# Altium footprint library MT_Module.PcbLib: 21 footprints (part 1 of 2)
Each footprint in its own frame and in the unit in brackets; x right, y up, seen from the top. Pads: shape width x height; smd on the part's side, far side on the other; paste and mask are expansions set on the pad; w line width, h text height; cw(c..) or ccw(c..) is an arc to the next point about the centre after c.
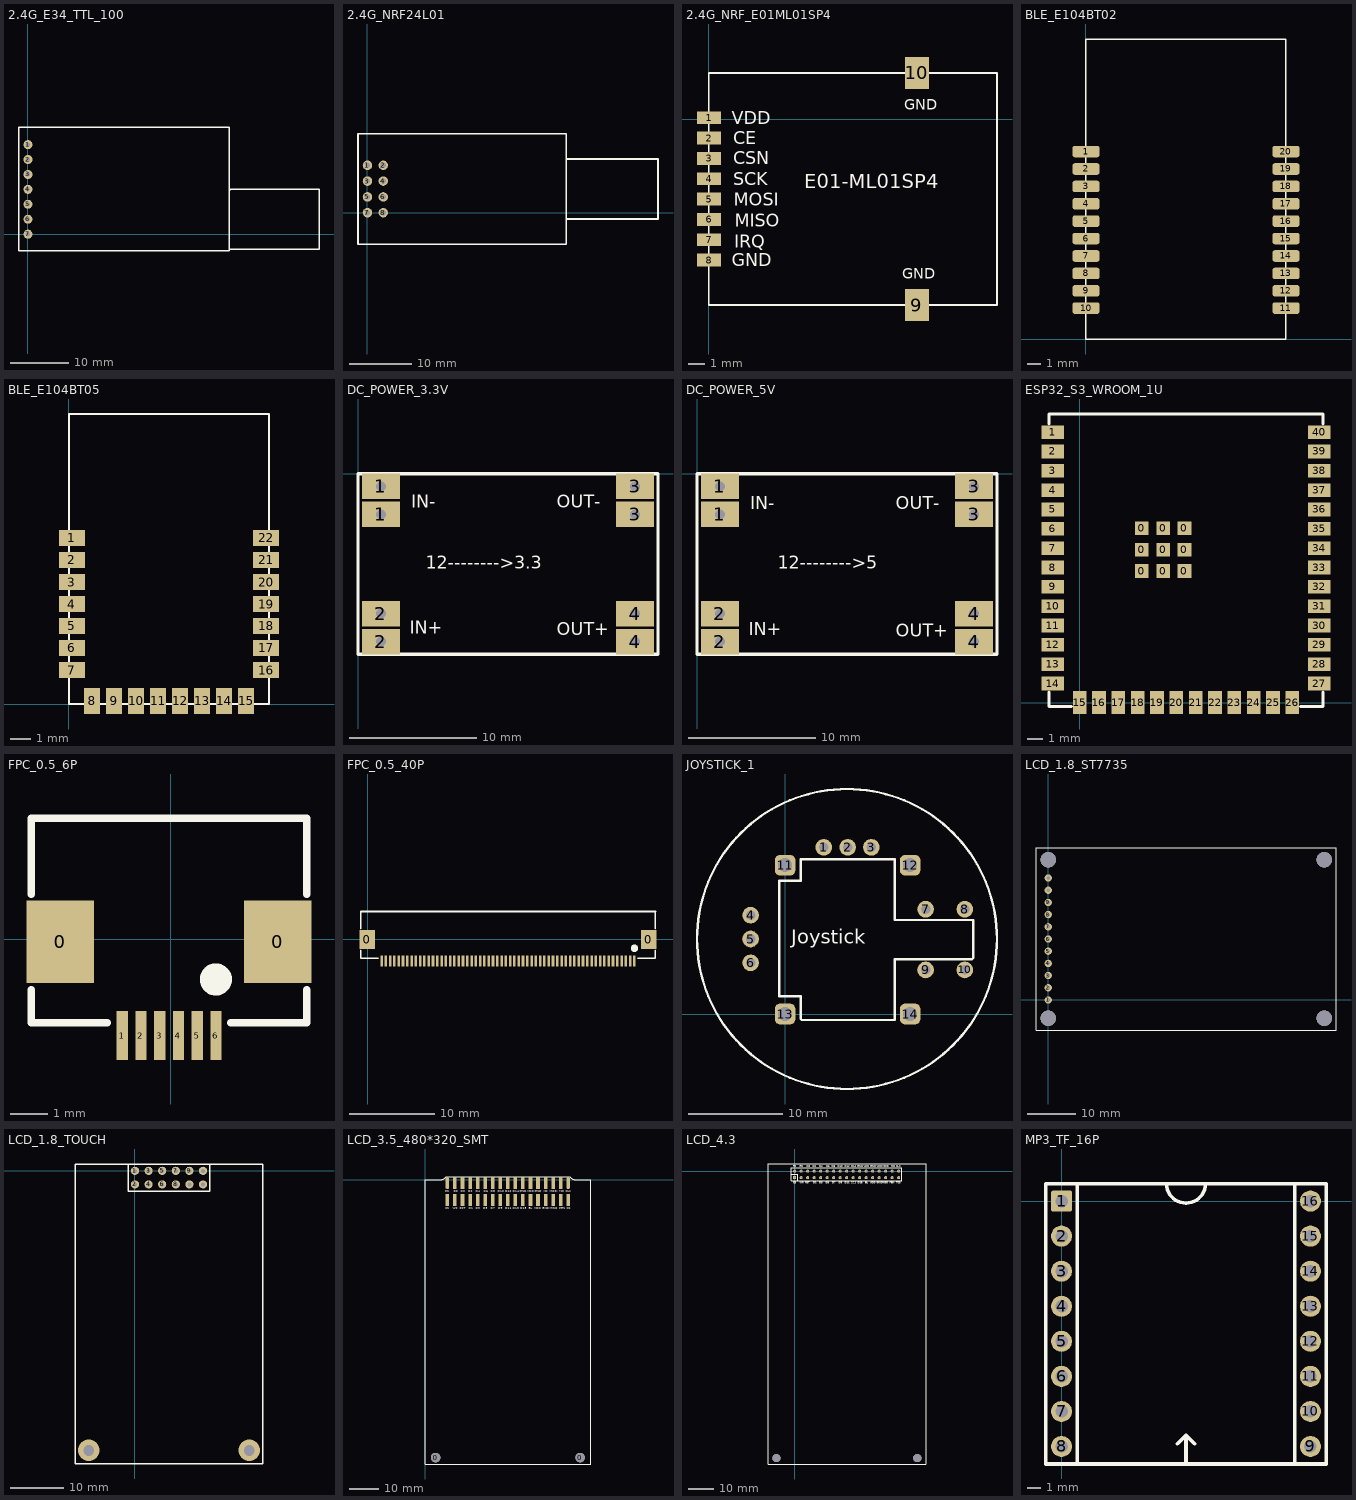
[diagram p0: the footprints below, top view; thin cyan lines are the x and y axes]

## 2.4G_E34_TTL_100 [mil]
pads (7):
  round 60 hole 30: 1(0,600) 2(0,500) 3(0,400) 4(0,300) 5(0,200) 6(0,100) 7(0,0)
Top Overlay:
  lines w10: 1350,-100 1950,-100 1950,100 1950,300 1350,300 1445,300 ; 1350,295 1355,295 ; 1650,300 1660,300 ; 1655,-100 1670,-100 ; -60,-110 -60,715 1350,715 1350,-110 -60,-110

## 2.4G_NRF24L01 [mil]
pads (8):
  round 60 hole 33.46: 1(0,300) 2(100,300) 3(0,200) 4(100,200) 5(0,100) 6(100,100) 7(0,0) 8(100,0)
Top Overlay:
  lines w10: 1260,-40 1840,-40 ; 1260,340 1840,340 1840,-40 ; 1640,-40 1840,-40 ; -60,-200 -60,500 0,500 1260,500 1260,-200 -60,-200
3D body "2.54mm4_2Pin.STEP": height 334.65, standoff -137.8, extent -45,-70 143.98,369.37

## 2.4G_NRF_E01ML01SP4 [mm]
pads (10):
  rect 1.5x0.8 smd: 1(0.006,0.108) 2(0.006,-1.162) 3(0.006,-2.432) 4(0.006,-3.702) 5(0.006,-4.972) 6(0.006,-6.242) 7(0.006,-7.512) 8(0.006,-8.782)
  rect 1.5x2 smd: 9(13,-11.595) 10(13,2.905)
Top Overlay:
  lines w0.1: 0,-11.595 18,-11.595 18,2.905 0,2.905 0,-11.595
  text "E01-ML01SP4" at 5.96,-4.285 h0.9
  text "VDD" at 1.435,-0.285 h0.8
  text "GND" at 12.192,0.597 h0.65
  text "CE" at 1.515,-1.545 h0.8
  text "CSN" at 1.515,-2.795 h0.8
  text "SCK" at 1.535,-4.115 h0.8
  text "MOSI" at 1.555,-5.395 h0.8
  text "MISO" at 1.605,-6.695 h0.8
  text "IRQ" at 1.585,-8.005 h0.8
  text "GND" at 1.435,-9.185 h0.8
  text "GND" at 12.065,-9.944 h0.65

## BLE_E104BT02 [mm]
pads (20):
  rrect50% 2x0.85 smd: 1(0.025,13.68) 2(0.025,12.41) 3(0.025,11.14) 4(0.025,9.87) 5(0.025,8.6) 6(0.025,7.33) 7(0.025,6.06) 8(0.025,4.79) 9(0.025,3.52) 10(0.025,2.25) 11(14.625,2.25) 12(14.625,3.52) 13(14.625,4.79) 14(14.625,6.06) 15(14.625,7.33) 16(14.625,8.6) 17(14.625,9.87) 18(14.625,11.14) 19(14.625,12.41) 20(14.625,13.68)
Top Overlay:
  lines w0.1: 0,0 0,21.9 14.6,21.9 14.6,0 0,0

## BLE_E104BT05 [mm]
pads (22):
  rect 1.3x0.8 smd: 1(0.15,8.322) 2(0.15,7.222) 3(0.15,6.122) 4(0.15,5.022) 5(0.15,3.922) 6(0.15,2.822) 7(0.15,1.722) 16(9.85,1.722) 17(9.85,2.822) 18(9.85,3.922) 19(9.85,5.022) 20(9.85,6.122) 21(9.85,7.222) 22(9.85,8.322)
  rect 0.8x1.3 smd: 8(1.157,0.172) 9(2.257,0.172) 10(3.357,0.172) 11(4.457,0.172) 12(5.557,0.172) 13(6.657,0.172) 14(7.757,0.172) 15(8.857,0.172)
Top Overlay:
  lines w0.1: 0.007,0.022 0.007,14.522 10.007,14.522 10.007,0.022 0.007,0.022

## DC_POWER_3.3V [mm]
pads (8):
  rect 3x2 hole 0.762: 1(1.803,-3.2) 1(1.803,-1) 2(1.803,-13.2) 2(1.803,-11) 3(21.797,-3.2) 3(21.797,-1) 4(21.797,-13.2) 4(21.797,-11)
Top Overlay:
  lines w0.254: 0,-14.2 23.6,-14.2 23.6,0 0,0 0,-14.2
  text "OUT+" at 15.621,-12.7 h1
  text "OUT-" at 15.621,-2.667 h1
  text "IN+" at 4.064,-12.573 h1
  text "IN-" at 4.191,-2.667 h1
  text "12-------->3.3" at 5.334,-7.493 h1

## DC_POWER_5V [mm]
pads (8):
  rect 3x2 hole 0.762: 1(1.803,-3.2) 1(1.803,-1) 2(1.803,-13.2) 2(1.803,-11) 3(21.797,-3.2) 3(21.797,-1) 4(21.797,-13.2) 4(21.797,-11)
Top Overlay:
  lines w0.254: 0,-14.2 23.6,-14.2 23.6,0 0,0 0,-14.2
  text "IN-" at 4.191,-2.794 h1
  text "IN+" at 4.064,-12.7 h1
  text "OUT-" at 15.621,-2.794 h1
  text "OUT+" at 15.621,-12.827 h1
  text "12-------->5" at 6.35,-7.493 h1

## ESP32_S3_WROOM_1U [mm]
pads (49):
  rect 0.9x0.9 smd: 0(4.085,8.64) 0(4.085,10.04) 0(4.085,11.44) 0(5.485,8.64) 0(5.485,10.04) 0(5.485,11.44) 0(6.885,8.64) 0(6.885,10.04) 0(6.885,11.44)
  rect 1.5x0.9 smd: 1(-1.765,17.76) 2(-1.765,16.49) 3(-1.765,15.22) 4(-1.765,13.95) 5(-1.765,12.68) 6(-1.765,11.41) 7(-1.765,10.14) 8(-1.765,8.87) 9(-1.765,7.6) 10(-1.765,6.33) 11(-1.765,5.06) 12(-1.765,3.79) 13(-1.765,2.52) 14(-1.765,1.25) 27(15.735,1.25) 28(15.735,2.52) 29(15.735,3.79) 30(15.735,5.06) 31(15.735,6.33) 32(15.735,7.6) 33(15.735,8.87) 34(15.735,10.14) 35(15.735,11.41) 36(15.735,12.68) 37(15.735,13.95) 38(15.735,15.22) 39(15.735,16.49) 40(15.735,17.76)
  rect 0.9x1.5 smd: 15(0,0) 16(1.27,0) 17(2.54,0) 18(3.81,0) 19(5.08,0) 20(6.35,0) 21(7.62,0) 22(8.89,0) 23(10.16,0) 24(11.43,0) 25(12.7,0) 26(13.97,0)
Top Overlay:
  lines w0.2: -2.015,0.7 -2.015,-0.25 -0.55,-0.25 ; -2.015,18.31 -2.015,18.95 15.985,18.95 15.985,18.31 ; 14.52,-0.25 15.985,-0.25 15.985,0.7
3D body "ESP WROOM 32.STEP": height 3, standoff -0.1, extent -2.01,-0.25 16.01,18.96

## FPC_0.5_6P [mm]
pads (8):
  rect 1.8x2.2 smd: 0(-2.951,-0.076) 0(2.849,-0.076)
  rect 0.3x1.3 smd: 1(-1.301,-2.573) 2(-0.801,-2.573) 3(-0.301,-2.573) 4(0.199,-2.573) 5(0.699,-2.573) 6(1.199,-2.573)
Top Overlay:
  circle w0.5: c1.199,-1.076 r0.18
  lines w0.2: -3.726,-1.346 -3.726,-2.235 -1.694,-2.235 ; -3.726,1.194 -3.726,3.226 3.624,3.226 3.624,1.194 ; 1.592,-2.235 3.624,-2.235 3.624,-1.346
3D body "FPC0.5-6P.STEP": height 2, standoff -0.01, extent -3.651,-3.028 3.549,2.972

## FPC_0.5_40P [mm]
pads (62):
  rect 1.8x2.2 smd: 0(-0.064,-0.051) 0(32.736,-0.051)
  rect 0.3x1.3 smd: 1(31.086,-2.548) 2(30.586,-2.548) 3(30.086,-2.548) 4(29.586,-2.548) 5(29.086,-2.548) 6(28.586,-2.548) 7(28.086,-2.548) 8(27.586,-2.548) 9(27.086,-2.548) 10(26.586,-2.548) 11(26.086,-2.548) 12(25.586,-2.548) 13(25.086,-2.548) 14(24.586,-2.548) 15(24.086,-2.548) 16(23.586,-2.548) 17(23.086,-2.548) 18(22.586,-2.548) 19(22.086,-2.548) 20(21.586,-2.548) 21(21.086,-2.548) 22(20.586,-2.548) 23(20.086,-2.548) 24(19.586,-2.548) 25(19.086,-2.548) 26(18.586,-2.548) 27(18.086,-2.548) 28(17.586,-2.548) 29(17.086,-2.548) 30(16.586,-2.548) 31(16.086,-2.548) 32(15.586,-2.548) 33(15.086,-2.548) 34(14.586,-2.548) 35(14.086,-2.548) 36(13.586,-2.548) 37(13.086,-2.548) 38(12.586,-2.548) 39(12.086,-2.548) 40(11.586,-2.548) 41(11.086,-2.548) 42(10.586,-2.548) 43(10.086,-2.548) 44(9.586,-2.548) 45(9.086,-2.548) 46(8.586,-2.548) 47(8.086,-2.548) 48(7.586,-2.548) 49(7.086,-2.548) 50(6.586,-2.548) 51(6.086,-2.548) 52(5.586,-2.548) 53(5.086,-2.548) 54(4.586,-2.548) 55(4.086,-2.548) 56(3.586,-2.548) 57(3.086,-2.548) 58(2.586,-2.548) 59(2.086,-2.548) 60(1.586,-2.548)
Top Overlay:
  circle w0.5: c31.086,-1.051 r0.18
  lines w0.2: -0.839,-1.321 -0.839,-2.21 1.193,-2.21 ; -0.839,1.219 -0.839,3.233 -0.82,3.251 ; 31.479,-2.21 33.511,-2.21 33.511,-1.321 ; 33.511,1.219 33.511,3.251
  lines w0.254: -0.82,3.251 33.511,3.251

## JOYSTICK_1 [mil]
pads (14):
  round 70 hole 40: 1(162.5,700) 2(262.5,700) 3(362.5,700) 4(-145,415) 5(-145,315) 6(-145,215) 7(590,440) 8(755,440) 9(590,185) 10(755,185)
  rrect50% 86.61x86.61 hole 59.06: 11(0,625) 12(525,625) 13(0,0) 14(525,0)
Top Overlay:
  circle w10: c260,315 r629.92
  lines w10: -25,75 65,75 65,-5 65,-20 70,-25 460,-25 460,75 460,230 785,230 790,235 790,395 460,395 460,650 65,650 65,560 -25,560 -25,550 -25,75
  text "Joystick" at 25,295 h60

## LCD_1.8_ST7735 [mil]
pads (11):
  round 60 hole 30: 1(0,0) 2(0,100) 3(0,200) 4(0,300) 5(0,400) 6(0,500) 7(0,600) 8(0,700) 9(0,800) 10(0,900) 11(0,1000)
via 0,1149.61 diameter 129.92 hole 129.92
via 0,-149.61 diameter 129.92 hole 129.92
via 2263.78,-149.61 diameter 129.92 hole 129.92
via 2263.78,1149.61 diameter 129.92 hole 129.92
Top Overlay:
  lines w10: -100.31,-248.03 1130,-248.03 2360.32,-248.03 2360.32,1248.03 1130,1248.03 -100.31,1248.03 -100.31,-248.03

## LCD_1.8_TOUCH [mil]
pads (12):
  round 60 hole 30: 1(0,0) 2(0,-100) 3(100,0) 4(100,-100) 5(200,0) 6(200,-100) 7(300,0) 8(300,-100) 9(400,0) 10(400,-100) 11(500,0) 12(500,-100)
via 840,-2055 diameter 157.48 hole 78.74
via -340,-2055 diameter 157.48 hole 78.74
Top Overlay:
  lines w10: -50,50 -50,-150 550,-150 550,50 ; 939.72,49.72 939.72,-2154.72 -440,-2154.72 -440,50 250,50 940,50

## LCD_3.5_480*320_SMT [mm]
pads (36):
  round 3.2 hole 3.2: 0(3.412,-93.468) 0(52.038,-93.468)
  rect 1.2x4 smd: 1(7.405,-6.828) 3(9.945,-6.828) 4(9.945,-1.148) 5(12.485,-6.828) 6(12.485,-1.148) 7(15.025,-6.828) 8(15.025,-1.148) 9(17.565,-6.828) 10(17.565,-1.148) 11(20.105,-6.828) 12(20.105,-1.148) 13(22.645,-6.828) 14(22.645,-1.148) 15(25.185,-6.828) 16(25.185,-1.148) 17(27.725,-6.828) 18(27.725,-1.148) 19(30.265,-6.828) 20(30.265,-1.148) 21(32.805,-6.828) 22(32.805,-1.148) 23(35.345,-6.828) 24(35.345,-1.148) 25(37.885,-6.828) 26(37.885,-1.148) 27(40.425,-6.828) 28(40.425,-1.148) 29(42.965,-6.828) 30(42.965,-1.148) 31(45.505,-6.828) 32(45.505,-1.148) 33(48.045,-6.828)
  oct 1.2x4 smd: 2(7.405,-1.148) 34(48.045,-1.148)
Top Overlay:
  lines w0.254: 4.953,0 ccw(c4.928,2.642) 7.011,1.016 48.514,1.016 ccw(c50.597,2.642) 50.622,0 ; 5.08,0 0,0 0,-95.631 55.575,-95.631 55.575,0 ; 50.419,0 55.499,0 ; 55.575,0 51.333,0 55.575,0
  text "D14" at 29.337,-4.191 h0.76
  text "D7" at 21.971,-9.906 h0.76
  text "RS" at 6.731,-4.191 h0.76
  text "CS" at 6.731,-9.906 h0.76
  text "WR" at 9.271,-9.906 h0.76
  text "RST" at 11.557,-9.906 h0.76
  text "D1" at 14.605,-9.906 h0.76
  text "D2" at 14.479,-4.191 h0.76
  text "D3" at 16.891,-9.906 h0.76
  text "D4" at 17.019,-4.191 h0.76
  text "D5" at 19.431,-9.906 h0.76
  text "D6" at 19.558,-4.191 h0.76
  text "D8" at 21.971,-4.191 h0.76
  text "D9" at 24.511,-9.906 h0.76
  text "D13" at 29.464,-9.906 h0.76
  text "D12" at 26.797,-4.191 h0.76
  text "D15" at 31.877,-9.906 h0.76
  text "VDD" at 36.576,-9.906 h0.76
  text "NC" at 39.751,-4.191 h0.76
  text "GND" at 36.83,-4.191 h0.76
  text "VDD" at 34.29,-4.191 h0.76
  text "D10" at 24.257,-4.191 h0.76
  text "D0" at 11.939,-4.191 h0.76
  text "RD" at 9.526,-4.191 h0.76
  text "GND" at 31.75,-4.191 h0.76
  text "GND" at 39.243,-9.906 h0.76
  text "D11" at 26.924,-9.906 h0.76
  text "PEN" at 45.085,-9.906 h0.76
  text "CLK" at 47.244,-4.191 h0.76
  text "MOSI" at 41.783,-4.191 h0.76
  text "MO" at 44.958,-4.191 h0.76
  text "CS" at 47.625,-9.906 h0.76
  text "MISO" at 41.91,-9.906 h0.76
  text "BL" at 34.798,-9.906 h0.76
3D body "装配体1.STEP": height 9.22, standoff 0.22, extent 6.17,-7.3 49.35,-0.6

## LCD_4.3 [mm]
pads (36):
  rect 1.2x1.2 hole 0.7: 1(0,-2.54)
  round 1.2 hole 0.7: 2(0,0) 3(2.54,-2.54) 4(2.54,0) 5(5.082,-2.546) 6(5.08,0) 7(7.622,-2.546) 8(7.622,-0.006) 9(10.16,-2.54) 10(10.16,0) 11(12.7,-2.54) 12(12.7,0) 13(15.24,-2.54) 14(15.24,0) 15(17.78,-2.54) 16(17.78,0) 17(20.32,-2.54) 18(20.32,0) 19(22.86,-2.54) 20(22.86,0) 21(25.4,-2.54) 22(25.4,0) 23(27.94,-2.54) 24(27.94,0) 25(30.48,-2.54) 26(30.48,0) 27(33.02,-2.54) 28(33.02,0) 29(35.56,-2.54) 30(35.56,0) 31(38.1,-2.54) 32(38.1,0) 33(40.64,-2.54) 34(40.64,0)
  round 3.2 hole 3.2: ""(-7.123,-112.142) ""(47.927,-112.142)
Top Overlay:
  lines w0.203: -1.268,-1.276 1.272,-1.276 1.272,-3.776 1.322,-3.826 -1.258,-3.826 -1.268,-3.816 -1.268,1.274 41.912,1.274 41.912,-3.806 ; 1.212,-3.826 41.912,-3.826 ; 41.912,-3.796 41.912,-3.496
  lines w0.254: -10.285,-114.433 -7.11,-114.433 51.194,-114.433 51.183,2.788 -1.649,2.788 -10.285,2.788 -10.285,-114.433
  text "D14" at 22.025,1.56 h0.71
  text "D7" at 14.605,-4.826 h0.71
  text "RS" at -0.475,1.56 h0.71
  text "CS" at -0.508,-4.826 h0.71
  text "WR" at 2.032,-4.826 h0.71
  text "RST" at 4.191,-4.826 h0.71
  text "D1" at 7.239,-4.826 h0.71
  text "D2" at 7.15,1.56 h0.71
  text "D3" at 9.652,-4.826 h0.71
  text "D4" at 9.65,1.56 h0.71
  text "D5" at 12.192,-4.826 h0.71
  text "D6" at 12.275,1.56 h0.71
  text "D8" at 14.4,1.56 h0.71
  text "D9" at 17.145,-4.826 h0.71
  text "D12" at 19.525,1.56 h0.71
  text "D15" at 24.638,-4.826 h0.71
  text "VDD" at 29.591,-4.826 h0.71
  text "VDD" at 32.15,1.56 h0.71
  text "GND" at 29.525,1.56 h0.71
  text "VDD" at 27.025,1.56 h0.71
  text "D10" at 16.9,1.56 h0.71
  text "D0" at 4.65,1.56 h0.71
  text "RD" at 2.025,1.56 h0.71
  text "GND" at 24.525,1.56 h0.71
  text "GND" at 32.004,-4.826 h0.71
  text "D11" at 19.558,-4.826 h0.71
  text "PEN" at 37.211,-4.826 h0.71
  text "CLK" at 39.65,1.56 h0.71
  text "MOSI" at 34.4,1.56 h0.71
  text "MO" at 37.65,1.56 h0.71
  text "TCS" at 39.751,-4.826 h0.71
  text "MISO" at 34.29,-4.826 h0.71
  text "BL" at 27.559,-4.826 h0.71
  text "D14" at 22.027,1.554 h0.71
  text "D7" at 14.607,-4.832 h0.71
  text "RS" at -0.473,1.554 h0.71
  text "CS" at -0.506,-4.832 h0.71
  text "WR" at 2.034,-4.832 h0.71
  text "RST" at 4.193,-4.832 h0.71
  text "D1" at 7.241,-4.832 h0.71
  text "D2" at 7.152,1.554 h0.71
  text "D3" at 9.654,-4.832 h0.71
  text "D4" at 9.652,1.554 h0.71
  text "D5" at 12.194,-4.832 h0.71
  text "D6" at 12.277,1.554 h0.71
  text "D8" at 14.402,1.554 h0.71
  text "D9" at 17.147,-4.832 h0.71
  text "D13" at 22.027,-4.842 h0.71
  text "D12" at 19.527,1.554 h0.71
  text "D15" at 24.64,-4.832 h0.71
  text "VDD" at 29.593,-4.832 h0.71
  text "VDD" at 32.152,1.554 h0.71
  text "GND" at 29.527,1.554 h0.71
  text "VDD" at 27.027,1.554 h0.71
  text "D10" at 16.902,1.554 h0.71
  text "D0" at 4.652,1.554 h0.71
  text "RD" at 2.027,1.554 h0.71
  text "GND" at 24.527,1.554 h0.71
  text "GND" at 32.006,-4.832 h0.71
  text "D11" at 19.56,-4.832 h0.71
  text "PEN" at 37.213,-4.832 h0.71
  text "CLK" at 39.652,1.554 h0.71
  text "MOSI" at 34.402,1.554 h0.71
  text "MO" at 37.652,1.554 h0.71
  text "TCS" at 39.753,-4.832 h0.71
  text "MISO" at 34.292,-4.832 h0.71
  text "BL" at 27.561,-4.832 h0.71

## MP3_TF_16P [mil]
pads (16):
  rrect20% 60x60 hole 35.43: 1(0,0)
  round 60 hole 35.43: 2(0,-100) 3(0,-200) 4(0,-300) 5(0,-400) 6(0,-500) 7(0,-600) 8(0,-700) 9(710,-700) 10(710,-600) 11(710,-500) 12(710,-400) 13(710,-300) 14(710,-200) 15(710,-100) 16(710,0)
Top Overlay:
  lines w10: 45,-750 45,50 ; 299.21,50 ccw(c355,50) 410.79,50 ; 330.71,-692.28 355,-667.99 ; 355,-750 355,-667.99 ; 379.29,-692.28 355,-667.99 ; 665,-750 665,50 ; -45,-750 755,-750 755,50 355,50 -45,50 -45,-750
3D body "46843345.STEP": height 335.44, standoff -137, extent -42.52,-748.82 751.97,51.18